# EAGLE library part ESP32-WROVER-B_(16MB) (library ESP32-WROVER-B__16MB_)
WiFi SMD Module, ESP32-WROVER-B, 16MB Flash memory
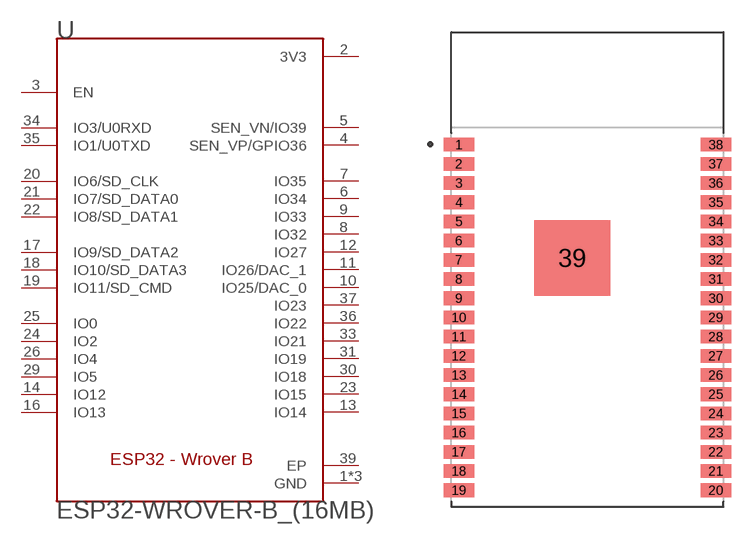
[diagram p0: symbol with the pads of XCVR_ESP32-WROVER-B_(16MB); footprint XCVR_ESP32-WROVER-B_(16MB)]

Designator prefix U

## ESP32-WROVER-B_(16MB) (AVAILABILITY: Unavailable; DESCRIPTION: Bluetooth, WiFi 802.11b/g/n, Bluetooth v4.2 +EDR, Class 1, 2 and 3 Transceiver Module 2.4GHz ~ 2.5GHz PCB Trace Surface Mount; MF: Espressif Systems; MP: ESP32-WROVER-B (16MB); PACKAGE: Module Espressif Systems; PRICE: None)  [XCVR_ESP32-WROVER-B_(16MB)]
1  GND  pwr
2  3V3  pwr
3  EN  in
4  SEN_VP/GPIO36
5  SEN_VN/IO39
6  IO34
7  IO35
8  IO32
9  IO33
10  IO25/DAC_0
11  IO26/DAC_1
12  IO27
13  IO14
14  IO12
15  GND  pwr
16  IO13
17  IO9/SD_DATA2
18  IO10/SD_DATA3
19  IO11/SD_CMD
20  IO6/SD_CLK
21  IO7/SD_DATA0
22  IO8/SD_DATA1
23  IO15
24  IO2
25  IO0
26  IO4
29  IO5
30  IO18
31  IO19
33  IO21
34  IO3/U0RXD
35  IO1/U0TXD
36  IO22
37  IO23
38  GND  pwr
39  EP  pwr

## Footprint XCVR_ESP32-WROVER-B_(16MB) (pad centres in mm)
smd 2 x 0.9: 1 -8.5,8.26; 2 -8.5,6.99; 3 -8.5,5.72; 4 -8.5,4.45; 5 -8.5,3.18; 6 -8.5,1.91; 7 -8.5,0.64; 8 -8.5,-0.63; 9 -8.5,-1.9; 10 -8.5,-3.17; 11 -8.5,-4.44; 12 -8.5,-5.71; 13 -8.5,-6.98; 14 -8.5,-8.25; 15 -8.5,-9.52; 16 -8.5,-10.79; 17 -8.5,-12.06; 18 -8.5,-13.33; 19 -8.5,-14.6; 20 8.5,-14.6; 21 8.5,-13.33; 22 8.5,-12.06; 23 8.5,-10.79; 24 8.5,-9.52; 25 8.5,-8.25; 26 8.5,-6.98; 27 8.5,-5.71; 28 8.5,-4.44; 29 8.5,-3.17; 30 8.5,-1.9; 31 8.5,-0.63; 32 8.5,0.64; 33 8.5,1.91; 34 8.5,3.18; 35 8.5,4.45; 36 8.5,5.72; 37 8.5,6.99; 38 8.5,8.26
smd 5 x 5: 39 -1,0.76